# Altium footprint library S3B-PH-SM4-TB.PcbLib: 1 footprints
Each footprint in its own frame and in the unit in brackets; x right, y up, seen from the top. Pads: shape width x height; smd on the part's side, far side on the other; paste and mask are expansions set on the pad; w line width, h text height; cw(c..) or ccw(c..) is an arc to the next point about the centre after c.
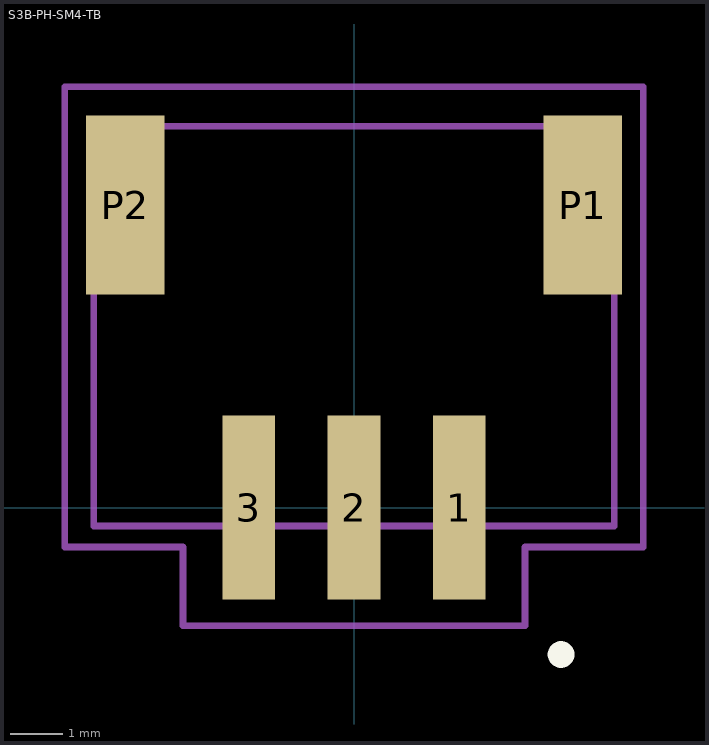
[diagram p0: the footprint, top view; thin cyan lines are the x and y axes]

## S3B-PH-SM4-TB [mm]
pads (5):
  rect 1x3.5 smd: 1(2,0) 2(0,0) 3(-2,0)
  rect 1.5x3.4 smd: P1(4.35,5.75) P2(-4.35,5.75)
Top Overlay:
  circle w0.254: c3.937,-2.794 r0.127
Mechanical 13:
  lines w0.127: -4.95,-0.35 -4.95,7.25 4.95,7.25 4.95,-0.35 -4.95,-0.35
Mechanical 15:
  lines w0.127: -5.5,-0.75 -5.5,8 5.5,8 5.5,-0.75 3.25,-0.75 3.25,-2.25 -3.25,-2.25 -3.25,-0.75 -5.5,-0.75
3D body "S3B-PH-SM4-TB.step": height 5.5, standoff -0.1, extent -4.95,-1.361 4.95,7.239